# Altium footprint library SG__PCB_QFN_DFN.PcbLib: 60 footprints (part 4 of 4)
Each footprint in its own frame and in the unit in brackets; x right, y up, seen from the top. Pads: shape width x height; smd on the part's side, far side on the other; paste and mask are expansions set on the pad; w line width, h text height; cw(c..) or ccw(c..) is an arc to the next point about the centre after c.
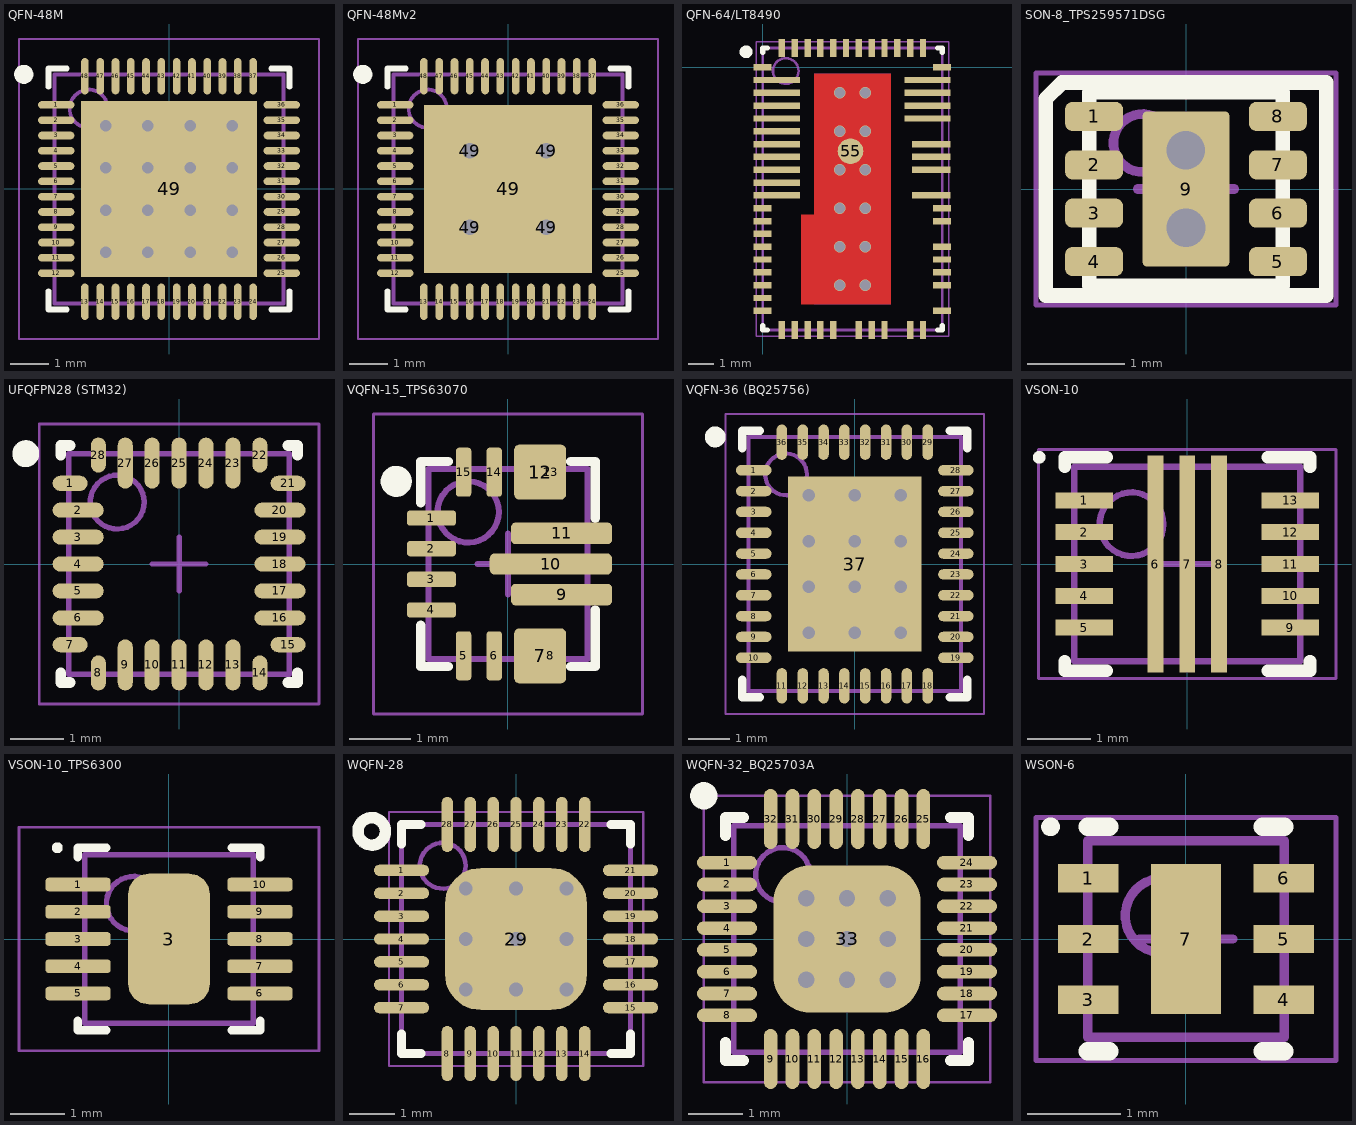
[diagram p3: the footprints below, top view; thin cyan lines are the x and y axes]

## QFN-48M [mm] "QFN, 48-Leads, Body 6,00x6,00mm, Pitch 0,40mm, Thermal Pad 4,60x4,60mm, IPC Low Density"
height 0.45
pads (65):
  oval 0.95x0.2 smd: 1(-2.95,2.2) 2(-2.95,1.8) 3(-2.95,1.4) 4(-2.95,1) 5(-2.95,0.6) 6(-2.95,0.2) 7(-2.95,-0.2) 8(-2.95,-0.6) 9(-2.95,-1) 10(-2.95,-1.4) 11(-2.95,-1.8) 12(-2.95,-2.2) 25(2.95,-2.2) 26(2.95,-1.8) 27(2.95,-1.4) 28(2.95,-1) 29(2.95,-0.6) 30(2.95,-0.2) 31(2.95,0.2) 32(2.95,0.6) 33(2.95,1) 34(2.95,1.4) 35(2.95,1.8) 36(2.95,2.2)
  oval 0.2x0.95 smd: 13(-2.2,-2.95) 14(-1.8,-2.95) 15(-1.4,-2.95) 16(-1,-2.95) 17(-0.6,-2.95) 18(-0.2,-2.95) 19(0.2,-2.95) 20(0.6,-2.95) 21(1,-2.95) 22(1.4,-2.95) 23(1.8,-2.95) 24(2.2,-2.95) 37(2.2,2.95) 38(1.8,2.95) 39(1.4,2.95) 40(1,2.95) 41(0.6,2.95) 42(0.2,2.95) 43(-0.2,2.95) 44(-0.6,2.95) 45(-1,2.95) 46(-1.4,2.95) 47(-1.8,2.95) 48(-2.2,2.95)
  rect 4.6x4.6 smd paste-10: 49(0,0)
  rrect50% 0.9x0.9 on Top Paste: ""(-1.65,-1.65) ""(-1.65,-0.55) ""(-1.65,0.55) ""(-1.65,1.65) ""(-0.55,-1.65) ""(-0.55,-0.55) ""(-0.55,0.55) ""(-0.55,1.65) ""(0.55,-1.65) ""(0.55,-0.55) ""(0.55,0.55) ""(0.55,1.65) ""(1.65,-1.65) ""(1.65,-0.55) ""(1.65,0.55) ""(1.65,1.65)
via -1.65,1.65 diameter 0.6 hole 0.3
via -0.55,1.65 diameter 0.6 hole 0.3
via 0.55,1.65 diameter 0.6 hole 0.3
via 1.65,1.65 diameter 0.6 hole 0.3
via -1.65,0.55 diameter 0.6 hole 0.3
via -0.55,0.55 diameter 0.6 hole 0.3
via 0.55,0.55 diameter 0.6 hole 0.3
via 1.65,0.55 diameter 0.6 hole 0.3
via -1.65,-0.55 diameter 0.6 hole 0.3
via -0.55,-0.55 diameter 0.6 hole 0.3
via 0.55,-0.55 diameter 0.6 hole 0.3
via 1.65,-0.55 diameter 0.6 hole 0.3
via -1.65,-1.65 diameter 0.6 hole 0.3
via -0.55,-1.65 diameter 0.6 hole 0.3
via 0.55,-1.65 diameter 0.6 hole 0.3
via 1.65,-1.65 diameter 0.6 hole 0.3
Top Overlay:
  circle w0.25: c-3.8,3 r0.125
  lines w0.152: -3.15,-2.676 -3.15,-3.15 -2.676,-3.15 ; -3.15,2.676 -3.15,3.15 -2.676,3.15 ; 2.676,-3.15 3.15,-3.15 3.15,-2.676 ; 2.676,3.15 3.15,3.15 3.15,2.676
Top Assembly:
  circle w0.1: c-2.1,2.1 r0.5
  lines w0.1: -3,-3 -3,3 3,3 3,-3 -3,-3
Top Courtyard:
  lines w0.05: -3.925,-3.925 -3.925,3.925 3.925,3.925 3.925,-3.925 -3.925,-3.925
  lines w0.1: -0.5,0 0.5,0 ; 0,-0.5 0,0.5
3D body "QFN40P600X600X45_HS-49M.step": height 0.45, standoff 0, extent -3.02,-3.02 3.02,3.02

## QFN-48Mv2 [mm] "QFN, 48-Leads, Body 6,00x6,00mm, Pitch 0,40mm, Thermal Pad 4,60x4,60mm, IPC Low Density"
height 0.45
pads (69):
  oval 0.95x0.2 smd: 1(-2.95,2.2) 2(-2.95,1.8) 3(-2.95,1.4) 4(-2.95,1) 5(-2.95,0.6) 6(-2.95,0.2) 7(-2.95,-0.2) 8(-2.95,-0.6) 9(-2.95,-1) 10(-2.95,-1.4) 11(-2.95,-1.8) 12(-2.95,-2.2) 25(2.95,-2.2) 26(2.95,-1.8) 27(2.95,-1.4) 28(2.95,-1) 29(2.95,-0.6) 30(2.95,-0.2) 31(2.95,0.2) 32(2.95,0.6) 33(2.95,1) 34(2.95,1.4) 35(2.95,1.8) 36(2.95,2.2)
  oval 0.2x0.95 smd: 13(-2.2,-2.95) 14(-1.8,-2.95) 15(-1.4,-2.95) 16(-1,-2.95) 17(-0.6,-2.95) 18(-0.2,-2.95) 19(0.2,-2.95) 20(0.6,-2.95) 21(1,-2.95) 22(1.4,-2.95) 23(1.8,-2.95) 24(2.2,-2.95) 37(2.2,2.95) 38(1.8,2.95) 39(1.4,2.95) 40(1,2.95) 41(0.6,2.95) 42(0.2,2.95) 43(-0.2,2.95) 44(-0.6,2.95) 45(-1,2.95) 46(-1.4,2.95) 47(-1.8,2.95) 48(-2.2,2.95)
  round 0.7 hole 0.4: 49(-1,-1) 49(-1,1) 49(1,-1) 49(1,1)
  rect 4.4x4.4 smd: 49(0,0)
  rrect50% 0.7x0.7 on Top Paste: ""(-1.65,-1.65) ""(-1.65,-0.55) ""(-1.65,0.55) ""(-1.65,1.65) ""(-0.55,-1.65) ""(-0.55,-0.55) ""(-0.55,0.55) ""(-0.55,1.65) ""(0.55,-1.65) ""(0.55,-0.55) ""(0.55,0.55) ""(0.55,1.65) ""(1.65,-1.65) ""(1.65,-0.55) ""(1.65,0.55) ""(1.65,1.65)
Top Overlay:
  circle w0.25: c-3.8,3 r0.125
  lines w0.152: -3.15,-2.676 -3.15,-3.15 -2.676,-3.15 ; -3.15,2.676 -3.15,3.15 -2.676,3.15 ; 2.676,-3.15 3.15,-3.15 3.15,-2.676 ; 2.676,3.15 3.15,3.15 3.15,2.676
Top Paste:
  lines w0.178: -1.65,-0.55 1.65,-0.55 ; -1.65,0.55 1.65,0.55 ; -0.55,-1.65 -0.55,1.65 ; 0.55,-1.65 0.55,1.65 ; -1.65,-1.65 -1.65,1.65 1.65,1.65 1.65,-1.65 -1.65,-1.65
Top Assembly:
  circle w0.1: c-2.1,2.1 r0.5
  lines w0.1: -3,-3 3,-3 3,3 -3,3 -3,-3
Top Courtyard:
  lines w0.05: -3.925,-3.925 3.925,-3.925 3.925,3.925 -3.925,3.925 -3.925,-3.925
  lines w0.1: -0.5,0 0.5,0 ; 0,-0.5 0,0.5
3D body "QFN40P600X600X45_HS-49M.step": height 0.45, standoff 0, extent -3.02,-3.02 3.02,3.02

## QFN-64/LT8490 [mm]
pads (59):
  rect 0.7x0.25 smd: 1(0,0) 12(0,-5.5) 13(0,-6) 14(0,-6.5) 15(0,-7) 16(0,-7.5) 17(0,-8) 18(0,-8.5) 19(0,-9) 20(0,-9.5) 33(7,-9.5) 35(7,-8.5) 36(7,-8) 37(7,-7.5) 38(7,-7) 40(7,-6) 41(7,-5.5) 52(7,0)
  rect 1.8x0.25 smd: 2(0.55,-0.5) 3(0.55,-1) 4(0.55,-1.5) 5(0.55,-2) 6(0.55,-2.5) 7(0.55,-3) 8(0.55,-3.5) 9(0.55,-4) 10(0.55,-4.5) 11(0.55,-5) 48(6.425,-2) 49(6.425,-1.5) 50(6.425,-1) 51(6.425,-0.5)
  rect 0.25x0.7 smd: 21(0.75,-10.25) 22(1.25,-10.25) 23(1.75,-10.25) 24(2.25,-10.25) 25(2.75,-10.25) 27(3.75,-10.25) 28(4.25,-10.25) 29(4.75,-10.25) 31(5.75,-10.25) 32(6.25,-10.25) 53(6.25,0.75) 54(5.75,0.75) 55(5.25,0.75) 56(4.75,0.75) 57(4.25,0.75) 58(3.75,0.75) 59(3.25,0.75) 60(2.75,0.75) 61(2.25,0.75) 62(1.75,0.75) 63(1.25,0.75) 64(0.75,0.75)
  rect 1.5x0.25 smd: 42(6.575,-5) 44(6.575,-4) 45(6.575,-3.5) 46(6.575,-3)
  round 1 smd: 55(3.425,-3.275)
via 4,-8.5 diameter 0.45 hole 0.4
via 3,-8.5 diameter 0.45 hole 0.4
via 4,-7 diameter 0.45 hole 0.4
via 3,-7 diameter 0.45 hole 0.4
via 4,-5.5 diameter 0.45 hole 0.4
via 3,-5.5 diameter 0.45 hole 0.4
via 4,-4 diameter 0.45 hole 0.4
via 3,-4 diameter 0.45 hole 0.4
via 4,-2.5 diameter 0.45 hole 0.4
via 3,-2.5 diameter 0.45 hole 0.4
via 4,-1 diameter 0.45 hole 0.4
via 3,-1 diameter 0.45 hole 0.4
Top Layer:
  rectangle: 1.5,-9.25 2.1,-5.75
  rectangle: 2,-9.25 5,-0.25
Bottom Layer:
  rectangle: 2,-9.25 5,-0.25
Top Overlay:
  circle w0.25: c-0.65,0.6 r0.125
  lines w0.2: 0,-10.075 0,-10.25 0.175,-10.25 ; 0,0.575 0,0.75 0.175,0.75 ; 6.825,-10.25 7,-10.25 7,-10.075 ; 6.825,0.75 7,0.75 7,0.575
Top Paste:
  rectangle: 2.25,-9 4.75,-0.5
  rectangle: 1.75,-9 2.25,-6
Top Solder:
  rectangle: 1.5,-9.25 5,-5.75
  rectangle: 2,-5.75 5,-0.25
Top Assembly:
  circle w0.1: c0.9,-0.15 r0.5
  lines w0.1: 0,-10.25 0,0.75 7,0.75 7,-10.25 0,-10.25
Top Courtyard:
  lines w0.05: -0.25,-10.5 -0.25,1 7.25,1 7.25,-10.5 -0.25,-10.5
  lines w0.1: 3,-4.75 4,-4.75 ; 3.5,-5.25 3.5,-4.25
3D body: height 0.75, standoff 0.05, extent 0,-10.25 7,0.75

## SON-8_TPS259571DSG [mm] "SON, 8-Leads, Body 2,00x2,00mm, Pitch 0,50mm, Thermal Pad 1,60x0,78mm, IPC Medium Density"
height 0.8
pads (9):
  rrect50% 0.6x0.3 smd: 1(-0.95,0.75) 2(-0.95,0.25) 3(-0.95,-0.25) 4(-0.95,-0.75) 5(0.95,-0.75) 6(0.95,-0.25) 7(0.95,0.25) 8(0.95,0.75)
  rrect10% 0.9x1.6 smd: 9(0,0)
via 0,-0.4 diameter 0.8 hole 0.4
via -0.001,0.4 diameter 0.8 hole 0.4
Top Overlay:
  lines w0.152: -1.45,-1.1 1.45,-1.1 1.45,1.1 -1.281,1.1 -1.45,0.931 -1.45,-1.1 ; -1,-1 1,-1 1,1 -1,1 -1,-1
Top Assembly:
  circle w0.1: c-0.45,0.475 r0.3
  lines w0.1: -1,-1 1,-1 1,1 -1,1 -1,-1
Top Courtyard:
  lines w0.05: -1.55,-1.2 1.55,-1.2 1.55,1.2 -1.55,1.2 -1.55,-1.2
  lines w0.1: -0.5,0 0.5,0 ; 0,-0.5 0,0.5
3D body "SON50P200X80_HS-9N.step": height 0.8, standoff 0, extent -1.05,-1 1.05,1

## UFQFPN28 (STM32) [mm] "QFN, 28-Leads, Body 4,00x4,00mm, Pitch 0,50mm, IPC Medium Density"
height 0.6
pads (28):
  oval 0.65x0.28 smd: 1(-2.025,1.5) 7(-2.025,-1.5) 15(2.025,-1.5) 21(2.025,1.5)
  oval 0.95x0.28 smd: 2(-1.875,1) 3(-1.875,0.5) 4(-1.875,0) 5(-1.875,-0.5) 6(-1.875,-1) 16(1.875,-1) 17(1.875,-0.5) 18(1.875,0) 19(1.875,0.5) 20(1.875,1)
  oval 0.28x0.65 smd: 8(-1.5,-2.025) 14(1.5,-2.025) 22(1.5,2.025) 28(-1.5,2.025)
  oval 0.28x0.95 smd: 9(-1,-1.875) 10(-0.5,-1.875) 11(0,-1.875) 12(0.5,-1.875) 13(1,-1.875) 23(1,1.875) 24(0.5,1.875) 25(0,1.875) 26(-0.5,1.875) 27(-1,1.875)
Top Overlay:
  circle w0.25: c-2.85,2.05 r0.125
  lines w0.2: -2.2,-2.025 -2.2,-2.2 -2.025,-2.2 ; -2.2,2.025 -2.2,2.2 -2.025,2.2 ; 2.025,-2.2 2.2,-2.2 2.2,-2.025 ; 2.025,2.2 2.2,2.2 2.2,2.025
Top Assembly:
  circle w0.1: c-1.15,1.15 r0.5
  lines w0.1: -2.05,-2.05 2.05,-2.05 2.05,2.05 -2.05,2.05 -2.05,-2.05
Top Courtyard:
  lines w0.05: -2.6,-2.6 2.6,-2.6 2.6,2.6 -2.6,2.6 -2.6,-2.6
  lines w0.1: -0.5,0 0.5,0 ; 0,-0.5 0,0.5
3D body "User Library-UFQFPN28.step": height 0.55, standoff -0.03, extent -2.005,-2.026 2.015,1.994

## VQFN-15_TPS63070 [mm] "QFN, 16-Leads, Body 3,00x2,50mm, Pitch 0,50mm, IPC Low Density"
height 1
pads (33):
  rrect40% 0.8x0.25 smd paste+0 mask+0.05: 1(-1.25,0.75) 2(-1.25,0.25) 3(-1.25,-0.25) 4(-1.25,-0.75)
  rrect40% 0.25x0.8 smd paste+0 mask+0.05: 5(-0.725,-1.5) 6(-0.225,-1.5) 14(-0.225,1.5) 15(-0.725,1.5)
  rrect20% 0.85x0.9 smd paste-1 mask-0.05: 7(0.525,-1.5) 12(0.525,1.5)
  rrect40% 0.25x0.8 smd paste-0.381 mask+0.05: 8(0.7,-1.5) 13(0.7,1.5)
  rrect40% 1.65x0.35 smd paste-1 mask-0.05: 9(0.875,-0.5) 11(0.875,0.5)
  rrect50% 2x0.35 smd paste-1 mask-0.05: 10(0.7,0)
  rrect40% 0.85x0.25 on Top Paste paste+0 mask+0.05: ""(0.175,0) ""(1.225,0)
  rrect40% 0.25x0.8 on Top Solder paste+0 mask+0.05: ""(0.275,-1.5) ""(0.275,1.5) ""(0.775,-1.5) ""(0.775,1.5)
  rrect40% 0.25x0.8 on Top Paste paste+0 mask+0.05: ""(0.275,-1.5) ""(0.275,1.5) ""(0.775,-1.5) ""(0.775,1.5)
  rrect40% 0.65x0.25 on Top Paste paste+0 mask+0.05: ""(0.425,-0.5) ""(0.425,0.5) ""(1.325,-0.5) ""(1.325,0.5)
  rrect40% 0.75x0.25 on Top Solder paste+0 mask+0.05: ""(0.525,-1.225) ""(0.525,1.225)
  rrect40% 0.75x0.25 on Top Paste paste+0 mask+0.05: ""(0.525,-1.225) ""(0.525,1.225)
Top Overlay:
  circle w0.254: c-1.825,1.35 r0.127
  lines w0.152: -1.425,-1 -1.425,-1.675 -0.975,-1.675 ; -1.425,1 -1.425,1.675 -0.975,1.675 ; 1.025,-1.675 1.425,-1.675 1.425,-0.75 ; 1.025,1.675 1.425,1.675 1.425,0.75
Top Assembly:
  circle w0.1: c-0.65,0.85 r0.5
  lines w0.1: -1.3,-1.55 1.3,-1.55 1.3,1.55 -1.3,1.55 -1.3,-1.55
Top Courtyard:
  lines w0.05: -2.2,-2.45 2.2,-2.45 2.2,2.45 -2.2,2.45 -2.2,-2.45
  lines w0.1: -0.5,0 0.5,0 ; 0,-0.5 0,0.5
3D body "QFN50P300X250X100-16M.step": height 1, standoff 0, extent -1.301,-1.551 1.301,1.551

## VQFN-36 (BQ25756) [mm] "QFN, 36-Leads, Body 5,00x6,00mm, Pitch 0,50mm, Thermal Pad 3,60x4,60mm, IPC Medium Density"
height 1
pads (37):
  oval 0.85x0.25 smd: 1(-2.425,2.25) 2(-2.425,1.75) 3(-2.425,1.25) 4(-2.425,0.75) 5(-2.425,0.25) 6(-2.425,-0.25) 7(-2.425,-0.75) 8(-2.425,-1.25) 9(-2.425,-1.75) 10(-2.425,-2.25) 19(2.425,-2.25) 20(2.425,-1.75) 21(2.425,-1.25) 22(2.425,-0.75) 23(2.425,-0.25) 24(2.425,0.25) 25(2.425,0.75) 26(2.425,1.25) 27(2.425,1.75) 28(2.425,2.25)
  oval 0.25x0.85 smd: 11(-1.75,-2.925) 12(-1.25,-2.925) 13(-0.75,-2.925) 14(-0.25,-2.925) 15(0.25,-2.925) 16(0.75,-2.925) 17(1.25,-2.925) 18(1.75,-2.925) 29(1.75,2.925) 30(1.25,2.925) 31(0.75,2.925) 32(0.25,2.925) 33(-0.25,2.925) 34(-0.75,2.925) 35(-1.25,2.925) 36(-1.75,2.925)
  rect 3.2x4.2 smd: 37(0,0)
via 1.1,-1.65 diameter 0.8 hole 0.3
via 0,-1.65 diameter 0.8 hole 0.3
via -1.1,-1.65 diameter 0.8 hole 0.3
via 1.1,-0.55 diameter 0.8 hole 0.3
via 0,-0.55 diameter 0.8 hole 0.3
via -1.1,-0.55 diameter 0.8 hole 0.3
via 1.1,0.55 diameter 0.8 hole 0.3
via 0,0.55 diameter 0.8 hole 0.3
via -1.1,0.55 diameter 0.8 hole 0.3
via 1.1,1.65 diameter 0.8 hole 0.3
via 0,1.65 diameter 0.8 hole 0.3
via -1.1,1.65 diameter 0.8 hole 0.3
Top Overlay:
  circle w0.25: c-3.35,3.05 r0.125
  lines w0.2: -2.7,-2.775 -2.7,-3.2 -2.275,-3.2 ; -2.7,2.775 -2.7,3.2 -2.275,3.2 ; 2.275,-3.2 2.7,-3.2 2.7,-2.775 ; 2.275,3.2 2.7,3.2 2.7,2.775
Top Assembly:
  circle w0.1: c-1.65,2.15 r0.5
  lines w0.1: -2.55,-3.05 2.55,-3.05 2.55,3.05 -2.55,3.05 -2.55,-3.05
Top Courtyard:
  lines w0.05: -3.1,-3.6 3.1,-3.6 3.1,3.6 -3.1,3.6 -3.1,-3.6
  lines w0.1: -0.5,0 0.5,0 ; 0,-0.5 0,0.5
3D body "VQFN-36 (BQ25756).step": height 1, standoff 0, extent -2.6,-3.1 2.6,3.1

## VSON-10 [mm]
height 1
pads (22):
  rect 0.9x0.25 smd: 1(-1.615,1) 2(-1.615,0.5) 3(-1.615,0) 4(-1.615,-0.5) 5(-1.615,-1) 9(1.615,-1) 10(1.615,-0.5) 11(1.615,0) 12(1.615,0.5) 13(1.615,1)
  rect 0.25x3.4 smd mask+0.102: 6(-0.5,0) 7(0,0) 8(0.5,0)
  rrect50% 0.25x1 on Top Solder mask+0.102: ""(-0.5,-1.2) ""(-0.5,0) ""(-0.5,1.2) ""(0,-1.2) ""(0,0) ""(0,1.2) ""(0.5,-1.2) ""(0.5,0) ""(0.5,1.2)
Top Overlay:
  circle w0.1: c-2.325,1.675 r0.05
  lines w0.2: -1.925,-1.525 -1.925,-1.675 -1.265,-1.675 ; -1.925,1.525 -1.925,1.675 -1.265,1.675 ; 1.265,-1.675 1.925,-1.675 1.925,-1.525 ; 1.265,1.675 1.925,1.675 1.925,1.525
Top Assembly:
  circle w0.1: c-0.875,0.625 r0.5
  lines w0.1: -1.775,-1.525 1.775,-1.525 1.775,1.525 -1.775,1.525 -1.775,-1.525
Top Courtyard:
  lines w0.05: -2.335,-1.8 2.335,-1.8 2.335,1.8 -2.335,1.8 -2.335,-1.8
  lines w0.1: -0.5,0 0.5,0 ; 0,-0.5 0,0.5
3D body: height 1, standoff 0.05, extent -1.775,-1.525 1.775,1.525

## VSON-10_TPS6300 [mm]
height 1
pads (11):
  rrect50% 1.2x0.25 smd: 1(-1.67,1) 2(-1.67,0.5) 3(-1.67,0) 4(-1.67,-0.5) 5(-1.67,-1) 6(1.67,-1) 7(1.67,-0.5) 8(1.67,0) 9(1.67,0.5) 10(1.67,1)
  rrect50% 1.5x2.4 smd: 3(0,0)
Top Overlay:
  circle w0.1: c-2.052,1.676 r0.05
  lines w0.152: -1.676,-1.501 -1.676,-1.676 -1.146,-1.676 ; -1.676,1.501 -1.676,1.676 -1.146,1.676 ; 1.146,-1.676 1.676,-1.676 1.676,-1.501 ; 1.146,1.676 1.676,1.676 1.676,1.501
Top Assembly:
  circle w0.1: c-0.65,0.65 r0.5
  lines w0.1: -1.55,-1.55 -1.55,1.55 1.55,1.55 1.55,-1.55 -1.55,-1.55
Top Courtyard:
  lines w0.05: -2.755,-2.05 -2.755,2.05 2.755,2.05 2.755,-2.05 -2.755,-2.05
  lines w0.1: -0.5,0 0.5,0 ; 0,-0.5 0,0.5
3D body: height 1, standoff 0.05, extent -1.55,-1.55 1.55,1.55

## WQFN-28 [mm] "PQFN, 28-Leads, Body 5,00x5,00mm, Pitch 0,50mm, Thermal Pad 3,25x3,25mm, IPC Medium Density"
height 0.8
pads (29):
  oval 1.2x0.25 smd: 1(-2.5,1.5) 2(-2.5,1) 3(-2.5,0.5) 4(-2.5,0) 5(-2.5,-0.5) 6(-2.5,-1) 7(-2.5,-1.5) 15(2.5,-1.5) 16(2.5,-1) 17(2.5,-0.5) 18(2.5,0) 19(2.5,0.5) 20(2.5,1) 21(2.5,1.5)
  oval 0.25x1.2 smd: 8(-1.5,-2.5) 9(-1,-2.5) 10(-0.5,-2.5) 11(0,-2.5) 12(0.5,-2.5) 13(1,-2.5) 14(1.5,-2.5) 22(1.5,2.5) 23(1,2.5) 24(0.5,2.5) 25(0,2.5) 26(-0.5,2.5) 27(-1,2.5) 28(-1.5,2.5)
  rrect50% 3.1x3.1 smd: 29(0,0)
via 1.1,-1.1 diameter 0.6 hole 0.3
via 0,-1.1 diameter 0.6 hole 0.3
via -1.1,-1.1 diameter 0.6 hole 0.3
via 1.1,0 diameter 0.6 hole 0.3
via 0,0 diameter 0.6 hole 0.3
via -1.1,0 diameter 0.6 hole 0.3
via 1.1,1.1 diameter 0.6 hole 0.3
via 0,1.1 diameter 0.6 hole 0.3
via -1.1,1.1 diameter 0.6 hole 0.3
Top Overlay:
  circle w0.25: c-3.15,2.35 r0.3
  lines w0.2: -2.5,-2.075 -2.5,-2.5 -2.075,-2.5 ; -2.5,2.075 -2.5,2.5 -2.075,2.5 ; 2.075,-2.5 2.5,-2.5 2.5,-2.075 ; 2.075,2.5 2.5,2.5 2.5,2.075
Top Assembly:
  circle w0.1: c-1.6,1.6 r0.5
  lines w0.1: -2.5,-2.5 -2.5,2.5 2.5,2.5 2.5,-2.5 -2.5,-2.5
Top Courtyard:
  lines w0.05: -2.775,-2.775 -2.775,2.775 2.775,2.775 2.775,-2.775 -2.775,-2.775
  lines w0.1: -0.5,0 0.5,0 ; 0,-0.5 0,0.5
3D body: height 0.8, standoff 0, extent -2.5,-2.5 2.5,2.5

## WQFN-32_BQ25703A [mm] "Body 4,00x4,00mm, Pitch 0,40mm"
height 0.8
pads (33):
  oval 1.1x0.25 smd: 1(-2.2,1.4) 2(-2.2,1) 3(-2.2,0.6) 4(-2.2,0.2) 5(-2.2,-0.2) 6(-2.2,-0.6) 7(-2.2,-1) 8(-2.2,-1.4) 17(2.2,-1.4) 18(2.2,-1) 19(2.2,-0.6) 20(2.2,-0.2) 21(2.2,0.2) 22(2.2,0.6) 23(2.2,1) 24(2.2,1.4)
  oval 0.25x1.1 smd: 9(-1.4,-2.2) 10(-1,-2.2) 11(-0.6,-2.2) 12(-0.2,-2.2) 13(0.2,-2.2) 14(0.6,-2.2) 15(1,-2.2) 16(1.4,-2.2) 25(1.4,2.2) 26(1,2.2) 27(0.6,2.2) 28(0.2,2.2) 29(-0.2,2.2) 30(-0.6,2.2) 31(-1,2.2) 32(-1.4,2.2)
  rrect50% 2.7x2.7 smd: 33(0,0)
via -0.75,-0.75 diameter 0.6 hole 0.3
via -0.75,0 diameter 0.6 hole 0.3
via -0.75,0.75 diameter 0.6 hole 0.3
via 0,0.75 diameter 0.6 hole 0.3
via 0.75,0.75 diameter 0.6 hole 0.3
via 0.75,0 diameter 0.6 hole 0.3
via 0.75,-0.75 diameter 0.6 hole 0.3
via 0,-0.75 diameter 0.6 hole 0.3
via 0,0 diameter 0.6 hole 0.3
Top Overlay:
  circle w0.25: c-2.625,2.625 r0.125
  lines w0.2: -2.225,-1.9 -2.225,-2.225 -1.9,-2.225 ; -2.225,1.9 -2.225,2.225 -1.9,2.225 ; 1.9,-2.225 2.225,-2.225 2.225,-1.9 ; 1.9,2.225 2.225,2.225 2.225,1.9
Top Assembly:
  circle w0.1: c-1.175,1.175 r0.5
  lines w0.1: -2.075,-2.075 2.075,-2.075 2.075,2.075 -2.075,2.075 -2.075,-2.075
Top Courtyard:
  lines w0.05: -2.625,-2.625 2.625,-2.625 2.625,2.625 -2.625,2.625 -2.625,-2.625
  lines w0.1: -0.5,0 0.5,0 ; 0,-0.5 0,0.5
3D body: height 0.8, standoff 0.05, extent -2.075,-2.075 2.075,2.075

## WSON-6 [mm] "SON, 6-Leads, Body 2,00x2,00mm, Pitch 0,65mm, Thermal Pad 1,60x0,75mm, IPC Medium Density"
height 0.8
pads (7):
  rect 0.65x0.3 smd: 1(-1.045,0.65) 2(-1.045,0) 3(-1.045,-0.65) 4(1.045,-0.65) 5(1.045,0) 6(1.045,0.65)
  rect 0.75x1.6 smd: 7(0,0)
Top Overlay:
  circle w0.1: c-1.45,1.2 r0.05
  lines w0.2: -1.05,-1.2 -0.82,-1.2 ; -1.05,1.2 -0.82,1.2 ; 0.82,-1.2 1.05,-1.2 ; 0.82,1.2 1.05,1.2
Top Assembly:
  circle w0.1: c-0.25,0.25 r0.4
  lines w0.1: -1.05,-1.05 1.05,-1.05 1.05,1.05 -1.05,1.05 -1.05,-1.05
Top Courtyard:
  lines w0.05: -1.605,-1.3 1.605,-1.3 1.605,1.3 -1.605,1.3 -1.605,-1.3
  lines w0.1: -0.5,0 0.5,0 ; 0,-0.5 0,0.5
3D body: height 0.8, standoff 0.08, extent -1.05,-1.05 1.05,1.05